# Altium integrated library TSM-104-04-T-SH-A.IntLib: 1 symbol
Pins are listed as number, name and electrical type; pins without a type are passive.

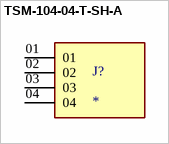
[diagram p0: symbol TSM-104-04-T-SH-A]

## TSM-104-04-T-SH-A
designator J?
MP: TSM-104-04-T-SH-A; MF: Samtec; Price: None; Availability: Unavailable; Package: None; Value: *
footprint SAMTEC_TSM-104-04-T-SH-A
pins: 01, 02, 03, 04